# Altium schematic symbol library Oscillator - Crystal.SchLib: 422 symbols (part 4 of 7)
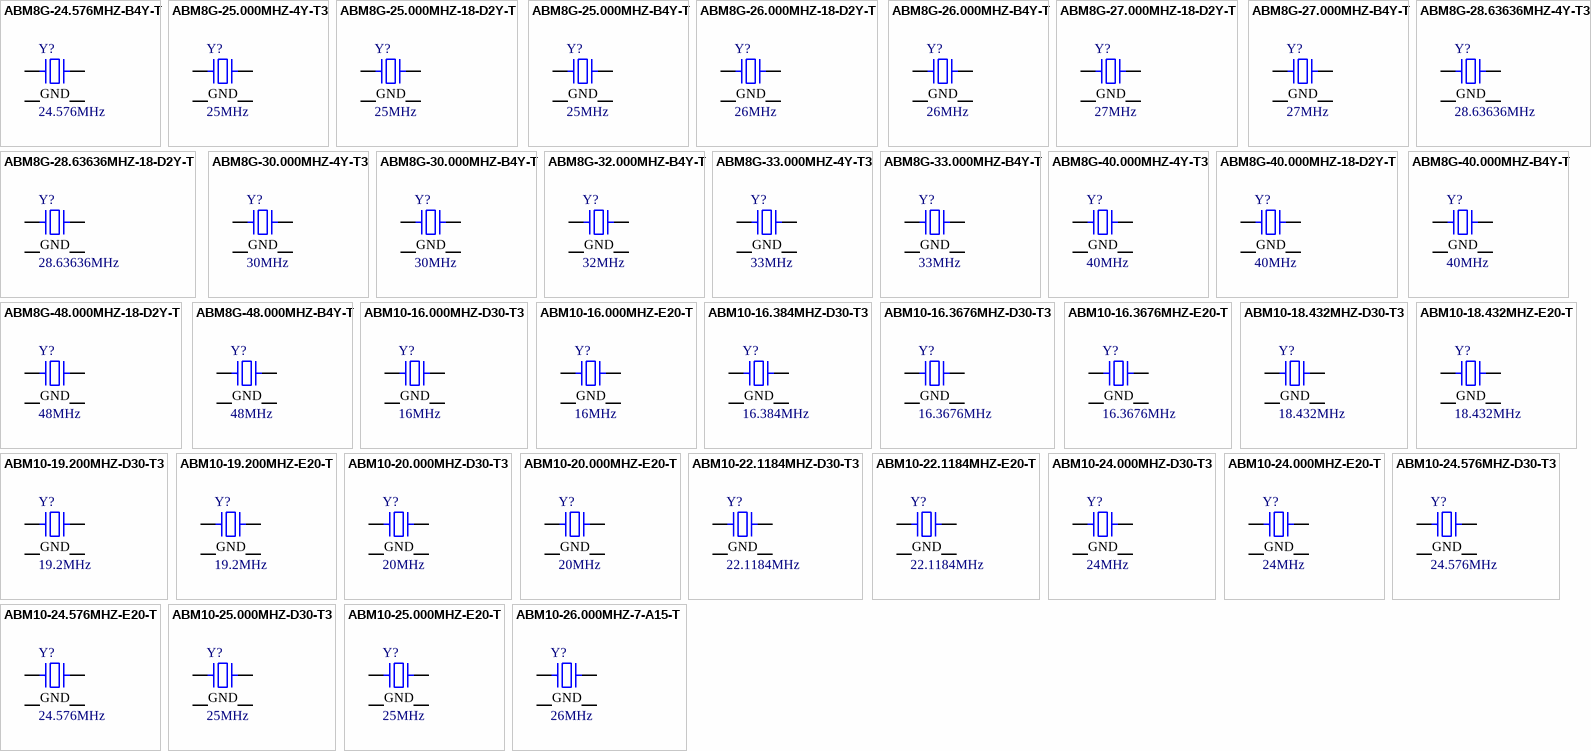
[diagram p13: symbols ABM8G-24.576MHZ-B4Y-T to ABM10-26.000MHZ-7-A15-T]

## ABM8G-26.000MHZ-B4Y-T
designator Y?, comment 26MHz
CRYSTAL 26.0000MHZ 10PF SMD; Part Number: ABM8G-26.000MHZ-B4Y-T; Manufacturer: Abracon LLC; Frequency Stability: 30ppm; ESR: 60 Ohm; Operating Mode: Fundamental; PartId: 8749; Supplier 1: Digi-Key; Supplier Part Number 1: 535-10298-2-ND; ComponentLink1Description: Datasheet; ComponentLink1URL: http://www.abracon.com/Resonators/ABM8G.pdf; ComponentLink2Description: Digi-Key Listing; ComponentLink2URL: https://www.digikey.com/product-detail/en/ABM8G-26.000MHZ-B4Y-T/535-10298-2-ND/2218044; Price: 0.495; Type: MHz Crystal; Device Package: 4-SMD, No Lead (DFN, LCC); Series: ABM8G; Frequency: 26MHz; Frequency Tolerance: 30ppm; Load Capacitance: 10pF
footprint ABRACON ABM8G
pins: 1, 2 GND, 3, 4 GND

## ABM8G-27.000MHZ-18-D2Y-T
designator Y?, comment 27MHz
CRYSTAL 27.0000MHZ 18PF SMD; Part Number: ABM8G-27.000MHZ-18-D2Y-T; Manufacturer: Abracon LLC; Frequency Stability: 30ppm; Frequency Tolerance: 20ppm; ESR: 60 Ohm; Operating Mode: Fundamental; PartId: 8742; Supplier 1: Digi-Key; Supplier Part Number 1: 535-10277-2-ND; ComponentLink1Description: Datasheet; ComponentLink1URL: http://www.abracon.com/Resonators/ABM8G.pdf; ComponentLink2Description: Digi-Key Listing; ComponentLink2URL: https://www.digikey.com/product-detail/en/ABM8G-27.000MHZ-18-D2Y-T/535-10277-2-ND/2218023; Price: 0.384; Type: MHz Crystal; Device Package: 4-SMD, No Lead (DFN, LCC); Series: ABM8G; Frequency: 27MHz; Load Capacitance: 18pF
footprint ABRACON ABM8G
pins: 1, 2 GND, 3, 4 GND

## ABM8G-27.000MHZ-B4Y-T
designator Y?, comment 27MHz
CRYSTAL 27.0000MHZ 10PF SMD; Part Number: ABM8G-27.000MHZ-B4Y-T; Manufacturer: Abracon LLC; Frequency Stability: 30ppm; ESR: 60 Ohm; Operating Mode: Fundamental; PartId: 8751; Supplier 1: Digi-Key; Supplier Part Number 1: 535-10299-2-ND; ComponentLink1Description: Datasheet; ComponentLink1URL: http://www.abracon.com/Resonators/ABM8G.pdf; ComponentLink2Description: Digi-Key Listing; ComponentLink2URL: https://www.digikey.com/product-detail/en/ABM8G-27.000MHZ-B4Y-T/535-10299-2-ND/2218045; Price: 0.495; Type: MHz Crystal; Device Package: 4-SMD, No Lead (DFN, LCC); Series: ABM8G; Frequency: 27MHz; Frequency Tolerance: 30ppm; Load Capacitance: 10pF
footprint ABRACON ABM8G
pins: 1, 2 GND, 3, 4 GND

## ABM8G-28.63636MHZ-4Y-T3
designator Y?, comment 28.63636MHz
CRYSTAL 28.63636MHZ 10PF SMD; Part Number: ABM8G-28.63636MHZ-4Y-T3; Manufacturer: Abracon LLC; Frequency Stability: 30ppm; ESR: 50 Ohm; Operating Mode: Fundamental; PartId: 8778; Supplier 1: Digi-Key; Supplier Part Number 1: 535-10918-2-ND; ComponentLink1Description: Datasheet; ComponentLink1URL: http://www.abracon.com/Resonators/ABM8G.pdf; ComponentLink2Description: Digi-Key Listing; ComponentLink2URL: https://www.digikey.com/product-detail/en/ABM8G-28.63636MHZ-4Y-T3/535-10918-2-ND/2623800; Price: 0.3915; Type: MHz Crystal; Device Package: 4-SMD, No Lead (DFN, LCC); Series: ABM8G; Frequency: 28.63636MHz; Frequency Tolerance: 30ppm; Load Capacitance: 10pF
footprint ABRACON ABM8G
pins: 1, 2 GND, 3, 4 GND

## ABM8G-28.63636MHZ-18-D2Y-T
designator Y?, comment 28.63636MHz
CRYSTAL 28.63636MHZ 18PF SMD; Part Number: ABM8G-28.63636MHZ-18-D2Y-T; Manufacturer: Abracon LLC; Frequency Stability: 30ppm; Frequency Tolerance: 20ppm; ESR: 50 Ohm; Operating Mode: Fundamental; PartId: 8746; Supplier 1: Digi-Key; Supplier Part Number 1: 535-10278-2-ND; ComponentLink1Description: Datasheet; ComponentLink1URL: http://www.abracon.com/Resonators/ABM8G.pdf; ComponentLink2Description: Digi-Key Listing; ComponentLink2URL: https://www.digikey.com/product-detail/en/ABM8G-28.63636MHZ-18-D2Y-T/535-10278-2-ND/2218024; Price: 0.585; Type: MHz Crystal; Device Package: 4-SMD, No Lead (DFN, LCC); Series: ABM8G; Frequency: 28.63636MHz; Load Capacitance: 18pF
footprint ABRACON ABM8G
pins: 1, 2 GND, 3, 4 GND

## ABM8G-30.000MHZ-4Y-T3
designator Y?, comment 30MHz
CRYSTAL 30.0000MHZ 10PF SMD; Part Number: ABM8G-30.000MHZ-4Y-T3; Manufacturer: Abracon LLC; Frequency Stability: 30ppm; ESR: 50 Ohm; Operating Mode: Fundamental; PartId: 8783; Supplier 1: Digi-Key; Supplier Part Number 1: 535-10919-2-ND; ComponentLink1Description: Datasheet; ComponentLink1URL: http://www.abracon.com/Resonators/ABM8G.pdf; ComponentLink2Description: Digi-Key Listing; ComponentLink2URL: https://www.digikey.com/product-detail/en/ABM8G-30.000MHZ-4Y-T3/535-10919-2-ND/2623801; Price: 0.3915; Type: MHz Crystal; Device Package: 4-SMD, No Lead (DFN, LCC); Series: ABM8G; Frequency: 30MHz; Frequency Tolerance: 30ppm; Load Capacitance: 10pF
footprint ABRACON ABM8G
pins: 1, 2 GND, 3, 4 GND

## ABM8G-30.000MHZ-B4Y-T
designator Y?, comment 30MHz
CRYSTAL 30.0000MHZ 10PF SMD; Part Number: ABM8G-30.000MHZ-B4Y-T; Manufacturer: Abracon LLC; Frequency Stability: 30ppm; ESR: 50 Ohm; Operating Mode: Fundamental; PartId: 8759; Supplier 1: Digi-Key; Supplier Part Number 1: 535-10301-2-ND; ComponentLink1Description: Datasheet; ComponentLink1URL: http://www.abracon.com/Resonators/ABM8G.pdf; ComponentLink2Description: Digi-Key Listing; ComponentLink2URL: https://www.digikey.com/product-detail/en/ABM8G-30.000MHZ-B4Y-T/535-10301-2-ND/2218047; Price: 0.495; Type: MHz Crystal; Device Package: 4-SMD, No Lead (DFN, LCC); Series: ABM8G; Frequency: 30MHz; Frequency Tolerance: 30ppm; Load Capacitance: 10pF
footprint ABRACON ABM8G
pins: 1, 2 GND, 3, 4 GND

## ABM8G-32.000MHZ-B4Y-T
designator Y?, comment 32MHz
CRYSTAL 32.0000MHZ 10PF SMD; Part Number: ABM8G-32.000MHZ-B4Y-T; Manufacturer: Abracon LLC; Frequency Stability: 30ppm; ESR: 50 Ohm; Operating Mode: Fundamental; PartId: 8745; Supplier 1: Digi-Key; Supplier Part Number 1: 535-10302-2-ND; ComponentLink1Description: Datasheet; ComponentLink1URL: http://www.abracon.com/Resonators/ABM8G.pdf; ComponentLink2Description: Digi-Key Listing; ComponentLink2URL: https://www.digikey.com/product-detail/en/ABM8G-32.000MHZ-B4Y-T/535-10302-2-ND/2218048; Price: 0.495; Type: MHz Crystal; Device Package: 4-SMD, No Lead (DFN, LCC); Series: ABM8G; Frequency: 32MHz; Frequency Tolerance: 30ppm; Load Capacitance: 10pF
footprint ABRACON ABM8G
pins: 1, 2 GND, 3, 4 GND

## ABM8G-33.000MHZ-4Y-T3
designator Y?, comment 33MHz
CRYSTAL 33.0000MHZ 10PF SMD; Part Number: ABM8G-33.000MHZ-4Y-T3; Manufacturer: Abracon LLC; Frequency Stability: 30ppm; ESR: 50 Ohm; Operating Mode: Fundamental; PartId: 8779; Supplier 1: Digi-Key; Supplier Part Number 1: 535-10920-2-ND; ComponentLink1Description: Datasheet; ComponentLink1URL: http://www.abracon.com/Resonators/ABM8G.pdf; ComponentLink2Description: Digi-Key Listing; ComponentLink2URL: https://www.digikey.com/product-detail/en/ABM8G-33.000MHZ-4Y-T3/535-10920-2-ND/2623802; Price: 0.3915; Type: MHz Crystal; Device Package: 4-SMD, No Lead (DFN, LCC); Series: ABM8G; Frequency: 33MHz; Frequency Tolerance: 30ppm; Load Capacitance: 10pF
footprint ABRACON ABM8G
pins: 1, 2 GND, 3, 4 GND

## ABM8G-33.000MHZ-B4Y-T
designator Y?, comment 33MHz
CRYSTAL 33.0000MHZ 10PF SMD; Part Number: ABM8G-33.000MHZ-B4Y-T; Manufacturer: Abracon LLC; Frequency Stability: 30ppm; ESR: 50 Ohm; Operating Mode: Fundamental; PartId: 8764; Supplier 1: Digi-Key; Supplier Part Number 1: 535-10303-2-ND; ComponentLink1Description: Datasheet; ComponentLink1URL: http://www.abracon.com/Resonators/ABM8G.pdf; ComponentLink2Description: Digi-Key Listing; ComponentLink2URL: https://www.digikey.com/product-detail/en/ABM8G-33.000MHZ-B4Y-T/535-10303-2-ND/2218049; Price: 0.495; Type: MHz Crystal; Device Package: 4-SMD, No Lead (DFN, LCC); Series: ABM8G; Frequency: 33MHz; Frequency Tolerance: 30ppm; Load Capacitance: 10pF
footprint ABRACON ABM8G
pins: 1, 2 GND, 3, 4 GND

## ABM8G-40.000MHZ-4Y-T3
designator Y?, comment 40MHz
CRYSTAL 40.0000MHZ 10PF SMD; Part Number: ABM8G-40.000MHZ-4Y-T3; Manufacturer: Abracon LLC; Frequency Stability: 30ppm; ESR: 50 Ohm; Operating Mode: Fundamental; PartId: 8784; Supplier 1: Digi-Key; Supplier Part Number 1: 535-10921-2-ND; ComponentLink1Description: Datasheet; ComponentLink1URL: http://www.abracon.com/Resonators/ABM8G.pdf; ComponentLink2Description: Digi-Key Listing; ComponentLink2URL: https://www.digikey.com/product-detail/en/ABM8G-40.000MHZ-4Y-T3/535-10921-2-ND/2623803; Price: 0.3915; Type: MHz Crystal; Device Package: 4-SMD, No Lead (DFN, LCC); Series: ABM8G; Frequency: 40MHz; Frequency Tolerance: 30ppm; Load Capacitance: 10pF
footprint ABRACON ABM8G
pins: 1, 2 GND, 3, 4 GND

## ABM8G-40.000MHZ-18-D2Y-T
designator Y?, comment 40MHz
CRYSTAL 40.0000MHZ 18PF SMD; Part Number: ABM8G-40.000MHZ-18-D2Y-T; Manufacturer: Abracon LLC; Frequency Stability: 30ppm; Frequency Tolerance: 20ppm; ESR: 50 Ohm; Operating Mode: Fundamental; PartId: 8770; Supplier 1: Digi-Key; Supplier Part Number 1: 535-10281-2-ND; ComponentLink1Description: Datasheet; ComponentLink1URL: http://www.abracon.com/Resonators/ABM8G.pdf; ComponentLink2Description: Digi-Key Listing; ComponentLink2URL: https://www.digikey.com/product-detail/en/ABM8G-40.000MHZ-18-D2Y-T/535-10281-2-ND/2218027; Price: 0.585; Type: MHz Crystal; Device Package: 4-SMD, No Lead (DFN, LCC); Series: ABM8G; Frequency: 40MHz; Load Capacitance: 18pF
footprint ABRACON ABM8G
pins: 1, 2 GND, 3, 4 GND

## ABM8G-40.000MHZ-B4Y-T
designator Y?, comment 40MHz
CRYSTAL 40.0000MHZ 10PF SMD; Part Number: ABM8G-40.000MHZ-B4Y-T; Manufacturer: Abracon LLC; Frequency Stability: 30ppm; ESR: 50 Ohm; Operating Mode: Fundamental; PartId: 8763; Supplier 1: Digi-Key; Supplier Part Number 1: 535-10304-2-ND; ComponentLink1Description: Datasheet; ComponentLink1URL: http://www.abracon.com/Resonators/ABM8G.pdf; ComponentLink2Description: Digi-Key Listing; ComponentLink2URL: https://www.digikey.com/product-detail/en/ABM8G-40.000MHZ-B4Y-T/535-10304-2-ND/2218050; Price: 0.495; Type: MHz Crystal; Device Package: 4-SMD, No Lead (DFN, LCC); Series: ABM8G; Frequency: 40MHz; Frequency Tolerance: 30ppm; Load Capacitance: 10pF
footprint ABRACON ABM8G
pins: 1, 2 GND, 3, 4 GND

## ABM8G-48.000MHZ-18-D2Y-T
designator Y?, comment 48MHz
CRYSTAL 48.0000MHZ 18PF SMD; Part Number: ABM8G-48.000MHZ-18-D2Y-T; Manufacturer: Abracon LLC; Frequency Stability: 30ppm; Frequency Tolerance: 20ppm; ESR: 50 Ohm; Operating Mode: Fundamental; PartId: 8752; Supplier 1: Digi-Key; Supplier Part Number 1: 535-10282-2-ND; ComponentLink1Description: Datasheet; ComponentLink1URL: http://www.abracon.com/Resonators/ABM8G.pdf; ComponentLink2Description: Digi-Key Listing; ComponentLink2URL: https://www.digikey.com/product-detail/en/ABM8G-48.000MHZ-18-D2Y-T/535-10282-2-ND/2218028; Price: 0.585; Type: MHz Crystal; Device Package: 4-SMD, No Lead (DFN, LCC); Series: ABM8G; Frequency: 48MHz; Load Capacitance: 18pF
footprint ABRACON ABM8G
pins: 1, 2 GND, 3, 4 GND

## ABM8G-48.000MHZ-B4Y-T
designator Y?, comment 48MHz
CRYSTAL 48.0000MHZ 10PF SMD; Part Number: ABM8G-48.000MHZ-B4Y-T; Manufacturer: Abracon LLC; Frequency Stability: 30ppm; ESR: 50 Ohm; Operating Mode: Fundamental; PartId: 8760; Supplier 1: Digi-Key; Supplier Part Number 1: 535-10305-2-ND; ComponentLink1Description: Datasheet; ComponentLink1URL: http://www.abracon.com/Resonators/ABM8G.pdf; ComponentLink2Description: Digi-Key Listing; ComponentLink2URL: https://www.digikey.com/product-detail/en/ABM8G-48.000MHZ-B4Y-T/535-10305-2-ND/2218051; Price: 0.495; Type: MHz Crystal; Device Package: 4-SMD, No Lead (DFN, LCC); Series: ABM8G; Frequency: 48MHz; Frequency Tolerance: 30ppm; Load Capacitance: 10pF
footprint ABRACON ABM8G
pins: 1, 2 GND, 3, 4 GND

## ABM10-16.000MHZ-D30-T3
designator Y?, comment 16MHz
CRYSTAL 16.0000MHZ 10PF SMD; Part Number: ABM10-16.000MHZ-D30-T3; Manufacturer: Abracon LLC; Frequency Stability: 30ppm; Frequency Tolerance: 20ppm; ESR: 150 Ohm; Operating Mode: Fundamental; PartId: 8880; Supplier 1: Digi-Key; Supplier Part Number 1: 535-10923-2-ND; ComponentLink1Description: Datasheet; ComponentLink1URL: http://www.abracon.com/Resonators/ABM10.pdf; ComponentLink2Description: Digi-Key Listing; ComponentLink2URL: https://www.digikey.com/product-detail/en/ABM10-16.000MHZ-D30-T3/535-10923-2-ND/2623723; Price: 0.667; Type: MHz Crystal; Device Package: 4-SMD, No Lead (DFN, LCC); Series: ABM10; Frequency: 16MHz; Load Capacitance: 10pF
footprint ABRACON ABM10
pins: 1, 2 GND, 3, 4 GND

## ABM10-16.000MHZ-E20-T
designator Y?, comment 16MHz
CRYSTAL 16.0000MHZ 10PF SMD; Part Number: ABM10-16.000MHZ-E20-T; Manufacturer: Abracon LLC; Frequency Stability: 20ppm; ESR: 150 Ohm; Operating Mode: Fundamental; PartId: 8878; Supplier 1: Digi-Key; Supplier Part Number 1: 535-9810-2-ND; ComponentLink1Description: Datasheet; ComponentLink1URL: http://www.abracon.com/Resonators/ABM10.pdf; ComponentLink2Description: Digi-Key Listing; ComponentLink2URL: https://www.digikey.com/product-detail/en/ABM10-16.000MHZ-E20-T/535-9810-2-ND/2001177; Price: 0.39; Type: MHz Crystal; Device Package: 4-SMD, No Lead (DFN, LCC); Series: ABM10; Frequency: 16MHz; Frequency Tolerance: 20ppm; Load Capacitance: 10pF
footprint ABRACON ABM10
pins: 1, 2 GND, 3, 4 GND

## ABM10-16.384MHZ-D30-T3
designator Y?, comment 16.384MHz
CRYSTAL 16.3840MHZ 10PF SMD; Part Number: ABM10-16.384MHZ-D30-T3; Manufacturer: Abracon LLC; Frequency Stability: 30ppm; Frequency Tolerance: 20ppm; ESR: 150 Ohm; Operating Mode: Fundamental; PartId: 8898; Supplier 1: Digi-Key; Supplier Part Number 1: 535-10925-2-ND; ComponentLink1Description: Datasheet; ComponentLink1URL: http://www.abracon.com/Resonators/ABM10.pdf; ComponentLink2Description: Digi-Key Listing; ComponentLink2URL: https://www.digikey.com/product-detail/en/ABM10-16.384MHZ-D30-T3/535-10925-2-ND/2623725; Price: 0.667; Type: MHz Crystal; Device Package: 4-SMD, No Lead (DFN, LCC); Series: ABM10; Frequency: 16.384MHz; Load Capacitance: 10pF
footprint ABRACON ABM10
pins: 1, 2 GND, 3, 4 GND

## ABM10-16.3676MHZ-D30-T3
designator Y?, comment 16.3676MHz
CRYSTAL 16.3676MHZ 10PF SMD; Part Number: ABM10-16.3676MHZ-D30-T3; Manufacturer: Abracon LLC; Frequency Stability: 30ppm; Frequency Tolerance: 20ppm; ESR: 150 Ohm; Operating Mode: Fundamental; PartId: 8903; Supplier 1: Digi-Key; Supplier Part Number 1: 535-10924-2-ND; ComponentLink1Description: Datasheet; ComponentLink1URL: http://www.abracon.com/Resonators/ABM10.pdf; ComponentLink2Description: Digi-Key Listing; ComponentLink2URL: https://www.digikey.com/product-detail/en/ABM10-16.3676MHZ-D30-T3/535-10924-2-ND/2623724; Price: 0.667; Type: MHz Crystal; Device Package: 4-SMD, No Lead (DFN, LCC); Series: ABM10; Frequency: 16.3676MHz; Load Capacitance: 10pF
footprint ABRACON ABM10
pins: 1, 2 GND, 3, 4 GND

## ABM10-16.3676MHZ-E20-T
designator Y?, comment 16.3676MHz
CRYSTAL 16.3676MHZ 10PF SMD; Part Number: ABM10-16.3676MHZ-E20-T; Manufacturer: Abracon LLC; Frequency Stability: 20ppm; ESR: 150 Ohm; Operating Mode: Fundamental; PartId: 8905; Supplier 1: Digi-Key; Supplier Part Number 1: 535-9811-2-ND; ComponentLink1Description: Datasheet; ComponentLink1URL: http://www.abracon.com/Resonators/ABM10.pdf; ComponentLink2Description: Digi-Key Listing; ComponentLink2URL: https://www.digikey.com/product-detail/en/ABM10-16.3676MHZ-E20-T/535-9811-2-ND/2001178; Price: 0.9587; Type: MHz Crystal; Device Package: 4-SMD, No Lead (DFN, LCC); Series: ABM10; Frequency: 16.3676MHz; Frequency Tolerance: 20ppm; Load Capacitance: 10pF
footprint ABRACON ABM10
pins: 1, 2 GND, 3, 4 GND

## ABM10-18.432MHZ-D30-T3
designator Y?, comment 18.432MHz
CRYSTAL 18.4320MHZ 10PF SMD; Part Number: ABM10-18.432MHZ-D30-T3; Manufacturer: Abracon LLC; Frequency Stability: 30ppm; Frequency Tolerance: 20ppm; ESR: 150 Ohm; Operating Mode: Fundamental; PartId: 8890; Supplier 1: Digi-Key; Supplier Part Number 1: 535-10926-2-ND; ComponentLink1Description: Datasheet; ComponentLink1URL: http://www.abracon.com/Resonators/ABM10.pdf; ComponentLink2Description: Digi-Key Listing; ComponentLink2URL: https://www.digikey.com/product-detail/en/ABM10-18.432MHZ-D30-T3/535-10926-2-ND/2623726; Price: 0.667; Type: MHz Crystal; Device Package: 4-SMD, No Lead (DFN, LCC); Series: ABM10; Frequency: 18.432MHz; Load Capacitance: 10pF
footprint ABRACON ABM10
pins: 1, 2 GND, 3, 4 GND

## ABM10-18.432MHZ-E20-T
designator Y?, comment 18.432MHz
CRYSTAL 18.4320MHZ 10PF SMD; Part Number: ABM10-18.432MHZ-E20-T; Manufacturer: Abracon LLC; Frequency Stability: 20ppm; ESR: 150 Ohm; Operating Mode: Fundamental; PartId: 8897; Supplier 1: Digi-Key; Supplier Part Number 1: 535-9813-2-ND; ComponentLink1Description: Datasheet; ComponentLink1URL: http://www.abracon.com/Resonators/ABM10.pdf; ComponentLink2Description: Digi-Key Listing; ComponentLink2URL: https://www.digikey.com/product-detail/en/ABM10-18.432MHZ-E20-T/535-9813-2-ND/2001180; Price: 0.9587; Type: MHz Crystal; Device Package: 4-SMD, No Lead (DFN, LCC); Series: ABM10; Frequency: 18.432MHz; Frequency Tolerance: 20ppm; Load Capacitance: 10pF
footprint ABRACON ABM10
pins: 1, 2 GND, 3, 4 GND

## ABM10-19.200MHZ-D30-T3
designator Y?, comment 19.2MHz
CRYSTAL 19.2000MHZ 10PF SMD; Part Number: ABM10-19.200MHZ-D30-T3; Manufacturer: Abracon LLC; Frequency Stability: 30ppm; Frequency Tolerance: 20ppm; ESR: 150 Ohm; Operating Mode: Fundamental; PartId: 8883; Supplier 1: Digi-Key; Supplier Part Number 1: 535-10927-2-ND; ComponentLink1Description: Datasheet; ComponentLink1URL: http://www.abracon.com/Resonators/ABM10.pdf; ComponentLink2Description: Digi-Key Listing; ComponentLink2URL: https://www.digikey.com/product-detail/en/ABM10-19.200MHZ-D30-T3/535-10927-2-ND/2623727; Price: 0.667; Type: MHz Crystal; Device Package: 4-SMD, No Lead (DFN, LCC); Series: ABM10; Frequency: 19.2MHz; Load Capacitance: 10pF
footprint ABRACON ABM10
pins: 1, 2 GND, 3, 4 GND

## ABM10-19.200MHZ-E20-T
designator Y?, comment 19.2MHz
CRYSTAL 19.2000MHZ 10PF SMD; Part Number: ABM10-19.200MHZ-E20-T; Manufacturer: Abracon LLC; Frequency Stability: 20ppm; ESR: 150 Ohm; Operating Mode: Fundamental; PartId: 8908; Supplier 1: Digi-Key; Supplier Part Number 1: 535-9814-2-ND; ComponentLink1Description: Datasheet; ComponentLink1URL: http://www.abracon.com/Resonators/ABM10.pdf; ComponentLink2Description: Digi-Key Listing; ComponentLink2URL: https://www.digikey.com/product-detail/en/ABM10-19.200MHZ-E20-T/535-9814-2-ND/2001181; Price: 0.9587; Type: MHz Crystal; Device Package: 4-SMD, No Lead (DFN, LCC); Series: ABM10; Frequency: 19.2MHz; Frequency Tolerance: 20ppm; Load Capacitance: 10pF
footprint ABRACON ABM10
pins: 1, 2 GND, 3, 4 GND

## ABM10-20.000MHZ-D30-T3
designator Y?, comment 20MHz
CRYSTAL 20.0000MHZ 10PF SMD; Part Number: ABM10-20.000MHZ-D30-T3; Manufacturer: Abracon LLC; Frequency Stability: 30ppm; Frequency Tolerance: 20ppm; ESR: 100 Ohm; Operating Mode: Fundamental; PartId: 8899; Supplier 1: Digi-Key; Supplier Part Number 1: 535-10928-2-ND; ComponentLink1Description: Datasheet; ComponentLink1URL: http://www.abracon.com/Resonators/ABM10.pdf; ComponentLink2Description: Digi-Key Listing; ComponentLink2URL: https://www.digikey.com/product-detail/en/ABM10-20.000MHZ-D30-T3/535-10928-2-ND/2623728; Price: 0.667; Type: MHz Crystal; Device Package: 4-SMD, No Lead (DFN, LCC); Series: ABM10; Frequency: 20MHz; Load Capacitance: 10pF
footprint ABRACON ABM10
pins: 1, 2 GND, 3, 4 GND

## ABM10-20.000MHZ-E20-T
designator Y?, comment 20MHz
CRYSTAL 20.0000MHZ 10PF SMD; Part Number: ABM10-20.000MHZ-E20-T; Manufacturer: Abracon LLC; Frequency Stability: 20ppm; ESR: 100 Ohm; Operating Mode: Fundamental; PartId: 8894; Supplier 1: Digi-Key; Supplier Part Number 1: 535-9091-2-ND; ComponentLink1Description: Datasheet; ComponentLink1URL: http://www.abracon.com/Resonators/ABM10.pdf; ComponentLink2Description: Digi-Key Listing; ComponentLink2URL: https://www.digikey.com/product-detail/en/ABM10-20.000MHZ-E20-T/535-9091-2-ND/675286; Price: 0.9587; Type: MHz Crystal; Device Package: 4-SMD, No Lead (DFN, LCC); Series: ABM10; Frequency: 20MHz; Frequency Tolerance: 20ppm; Load Capacitance: 10pF
footprint ABRACON ABM10
pins: 1, 2 GND, 3, 4 GND

## ABM10-22.1184MHZ-D30-T3
designator Y?, comment 22.1184MHz
CRYSTAL 22.1184MHZ 10PF SMD; Part Number: ABM10-22.1184MHZ-D30-T3; Manufacturer: Abracon LLC; Frequency Stability: 30ppm; Frequency Tolerance: 20ppm; ESR: 100 Ohm; Operating Mode: Fundamental; PartId: 8904; Supplier 1: Digi-Key; Supplier Part Number 1: 535-10929-2-ND; ComponentLink1Description: Datasheet; ComponentLink1URL: http://www.abracon.com/Resonators/ABM10.pdf; ComponentLink2Description: Digi-Key Listing; ComponentLink2URL: https://www.digikey.com/product-detail/en/ABM10-22.1184MHZ-D30-T3/535-10929-2-ND/2623729; Price: 0.667; Type: MHz Crystal; Device Package: 4-SMD, No Lead (DFN, LCC); Series: ABM10; Frequency: 22.1184MHz; Load Capacitance: 10pF
footprint ABRACON ABM10
pins: 1, 2 GND, 3, 4 GND

## ABM10-22.1184MHZ-E20-T
designator Y?, comment 22.1184MHz
CRYSTAL 22.1184MHZ 10PF SMD; Part Number: ABM10-22.1184MHZ-E20-T; Manufacturer: Abracon LLC; Frequency Stability: 20ppm; ESR: 100 Ohm; Operating Mode: Fundamental; PartId: 8909; Supplier 1: Digi-Key; Supplier Part Number 1: 535-9092-2-ND; ComponentLink1Description: Datasheet; ComponentLink1URL: http://www.abracon.com/Resonators/ABM10.pdf; ComponentLink2Description: Digi-Key Listing; ComponentLink2URL: https://www.digikey.com/product-detail/en/ABM10-22.1184MHZ-E20-T/535-9092-2-ND/675287; Price: 0.9587; Type: MHz Crystal; Device Package: 4-SMD, No Lead (DFN, LCC); Series: ABM10; Frequency: 22.1184MHz; Frequency Tolerance: 20ppm; Load Capacitance: 10pF
footprint ABRACON ABM10
pins: 1, 2 GND, 3, 4 GND

## ABM10-24.000MHZ-D30-T3
designator Y?, comment 24MHz
CRYSTAL 24.0000MHZ 10PF SMD; Part Number: ABM10-24.000MHZ-D30-T3; Manufacturer: Abracon LLC; Frequency Stability: 30ppm; Frequency Tolerance: 20ppm; ESR: 100 Ohm; Operating Mode: Fundamental; PartId: 8881; Supplier 1: Digi-Key; Supplier Part Number 1: 535-10930-2-ND; ComponentLink1Description: Datasheet; ComponentLink1URL: http://www.abracon.com/Resonators/ABM10.pdf; ComponentLink2Description: Digi-Key Listing; ComponentLink2URL: https://www.digikey.com/product-detail/en/ABM10-24.000MHZ-D30-T3/535-10930-2-ND/2623730; Price: 0.667; Type: MHz Crystal; Device Package: 4-SMD, No Lead (DFN, LCC); Series: ABM10; Frequency: 24MHz; Load Capacitance: 10pF
footprint ABRACON ABM10
pins: 1, 2 GND, 3, 4 GND

## ABM10-24.000MHZ-E20-T
designator Y?, comment 24MHz
CRYSTAL 24.0000MHZ 10PF SMD; Part Number: ABM10-24.000MHZ-E20-T; Manufacturer: Abracon LLC; Frequency Stability: 20ppm; ESR: 100 Ohm; Operating Mode: Fundamental; PartId: 8886; Supplier 1: Digi-Key; Supplier Part Number 1: 535-9093-2-ND; ComponentLink1Description: Datasheet; ComponentLink1URL: http://www.abracon.com/Resonators/ABM10.pdf; ComponentLink2Description: Digi-Key Listing; ComponentLink2URL: https://www.digikey.com/product-detail/en/ABM10-24.000MHZ-E20-T/535-9093-2-ND/675288; Price: 0.384; Type: MHz Crystal; Device Package: 4-SMD, No Lead (DFN, LCC); Series: ABM10; Frequency: 24MHz; Frequency Tolerance: 20ppm; Load Capacitance: 10pF
footprint ABRACON ABM10
pins: 1, 2 GND, 3, 4 GND

## ABM10-24.576MHZ-D30-T3
designator Y?, comment 24.576MHz
CRYSTAL 24.5760MHZ 10PF SMD; Part Number: ABM10-24.576MHZ-D30-T3; Manufacturer: Abracon LLC; Frequency Stability: 30ppm; Frequency Tolerance: 20ppm; ESR: 100 Ohm; Operating Mode: Fundamental; PartId: 8900; Supplier 1: Digi-Key; Supplier Part Number 1: 535-10931-2-ND; ComponentLink1Description: Datasheet; ComponentLink1URL: http://www.abracon.com/Resonators/ABM10.pdf; ComponentLink2Description: Digi-Key Listing; ComponentLink2URL: https://www.digikey.com/product-detail/en/ABM10-24.576MHZ-D30-T3/535-10931-2-ND/2623731; Price: 0.667; Type: MHz Crystal; Device Package: 4-SMD, No Lead (DFN, LCC); Series: ABM10; Frequency: 24.576MHz; Load Capacitance: 10pF
footprint ABRACON ABM10
pins: 1, 2 GND, 3, 4 GND

## ABM10-24.576MHZ-E20-T
designator Y?, comment 24.576MHz
CRYSTAL 24.5760MHZ 10PF SMD; Part Number: ABM10-24.576MHZ-E20-T; Manufacturer: Abracon LLC; Frequency Stability: 20ppm; ESR: 100 Ohm; Operating Mode: Fundamental; PartId: 8896; Supplier 1: Digi-Key; Supplier Part Number 1: 535-9094-2-ND; ComponentLink1Description: Datasheet; ComponentLink1URL: http://www.abracon.com/Resonators/ABM10.pdf; ComponentLink2Description: Digi-Key Listing; ComponentLink2URL: https://www.digikey.com/product-detail/en/ABM10-24.576MHZ-E20-T/535-9094-2-ND/675289; Price: 0.9587; Type: MHz Crystal; Device Package: 4-SMD, No Lead (DFN, LCC); Series: ABM10; Frequency: 24.576MHz; Frequency Tolerance: 20ppm; Load Capacitance: 10pF
footprint ABRACON ABM10
pins: 1, 2 GND, 3, 4 GND

## ABM10-25.000MHZ-D30-T3
designator Y?, comment 25MHz
CRYSTAL 25.0000MHZ 10PF SMD; Part Number: ABM10-25.000MHZ-D30-T3; Manufacturer: Abracon LLC; Frequency Stability: 30ppm; Frequency Tolerance: 20ppm; ESR: 100 Ohm; Operating Mode: Fundamental; PartId: 8882; Supplier 1: Digi-Key; Supplier Part Number 1: 535-10932-2-ND; ComponentLink1Description: Datasheet; ComponentLink1URL: http://www.abracon.com/Resonators/ABM10.pdf; ComponentLink2Description: Digi-Key Listing; ComponentLink2URL: https://www.digikey.com/product-detail/en/ABM10-25.000MHZ-D30-T3/535-10932-2-ND/2623732; Price: 0.667; Type: MHz Crystal; Device Package: 4-SMD, No Lead (DFN, LCC); Series: ABM10; Frequency: 25MHz; Load Capacitance: 10pF
footprint ABRACON ABM10
pins: 1, 2 GND, 3, 4 GND

## ABM10-25.000MHZ-E20-T
designator Y?, comment 25MHz
CRYSTAL 25.0000MHZ 10PF SMD; Part Number: ABM10-25.000MHZ-E20-T; Manufacturer: Abracon LLC; Frequency Stability: 20ppm; ESR: 100 Ohm; Operating Mode: Fundamental; PartId: 8884; Supplier 1: Digi-Key; Supplier Part Number 1: 535-9095-2-ND; ComponentLink1Description: Datasheet; ComponentLink1URL: http://www.abracon.com/Resonators/ABM10.pdf; ComponentLink2Description: Digi-Key Listing; ComponentLink2URL: https://www.digikey.com/product-detail/en/ABM10-25.000MHZ-E20-T/535-9095-2-ND/675290; Price: 0.9587; Type: MHz Crystal; Device Package: 4-SMD, No Lead (DFN, LCC); Series: ABM10; Frequency: 25MHz; Frequency Tolerance: 20ppm; Load Capacitance: 10pF
footprint ABRACON ABM10
pins: 1, 2 GND, 3, 4 GND

## ABM10-26.000MHZ-7-A15-T
designator Y?, comment 26MHz
CRYSTAL 26.0000MHZ 10PF SMD; Part Number: ABM10-26.000MHZ-7-A15-T; Manufacturer: Abracon LLC; Frequency Stability: 15ppm; ESR: 100 Ohm; Operating Mode: Fundamental; PartId: 8907; Supplier 1: Digi-Key; Supplier Part Number 1: 535-9624-2-ND; ComponentLink1Description: Datasheet; ComponentLink1URL: http://www.abracon.com/Resonators/ABM10.pdf; ComponentLink2Description: Digi-Key Listing; ComponentLink2URL: https://www.digikey.com/product-detail/en/ABM10-26.000MHZ-7-A15-T/535-9624-2-ND/1236941; Price: 0.6; Type: MHz Crystal; Device Package: 4-SMD, No Lead (DFN, LCC); Series: ABM10; Frequency: 26MHz; Frequency Tolerance: 15ppm; Load Capacitance: 10pF
footprint ABRACON ABM10
pins: 1, 2 GND, 3, 4 GND

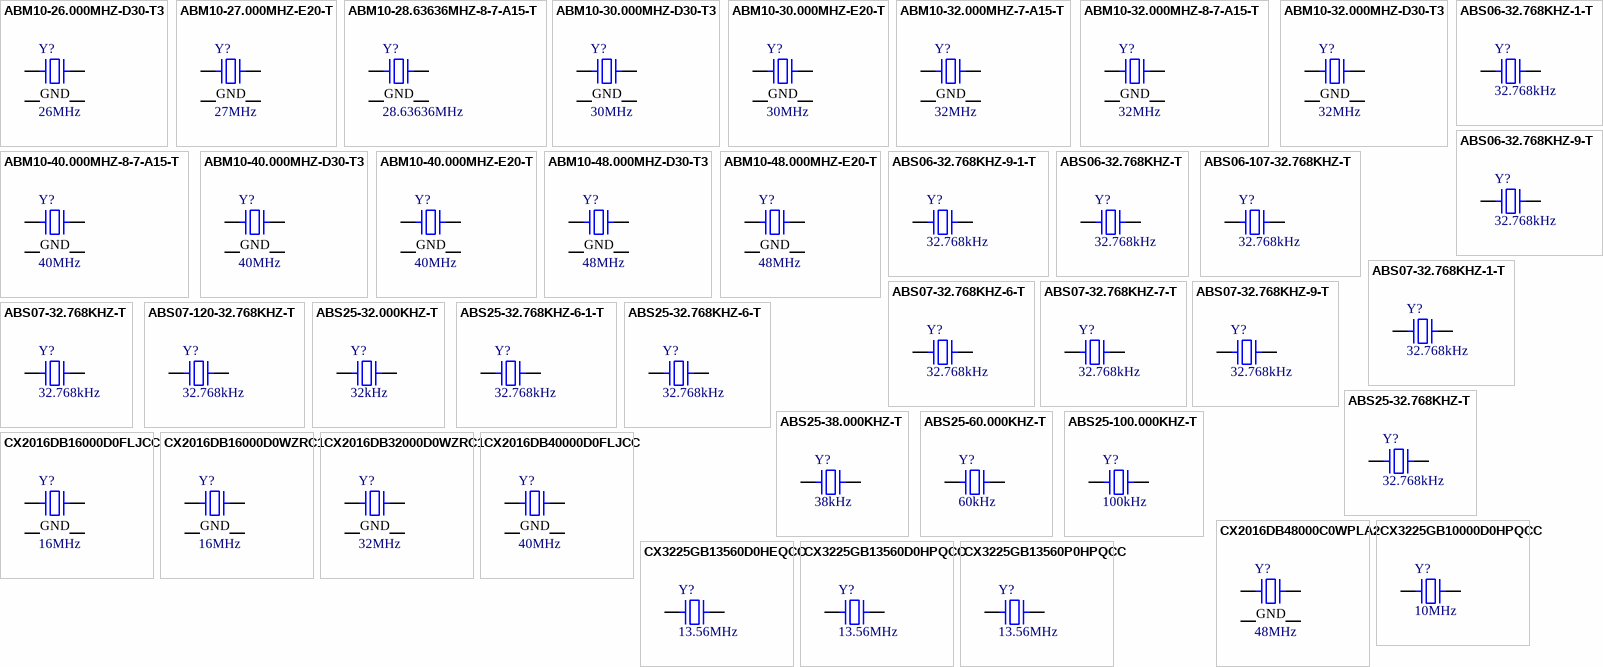
[diagram p6: symbols ABM10-26.000MHZ-D30-T3 to CX3225GB13560P0HPQCC]

## ABM10-26.000MHZ-D30-T3
designator Y?, comment 26MHz
CRYSTAL 26.0000MHZ 10PF SMD; Part Number: ABM10-26.000MHZ-D30-T3; Manufacturer: Abracon LLC; Frequency Stability: 30ppm; Frequency Tolerance: 20ppm; ESR: 100 Ohm; Operating Mode: Fundamental; PartId: 8891; Supplier 1: Digi-Key; Supplier Part Number 1: 535-10933-2-ND; ComponentLink1Description: Datasheet; ComponentLink1URL: http://www.abracon.com/Resonators/ABM10.pdf; ComponentLink2Description: Digi-Key Listing; ComponentLink2URL: https://www.digikey.com/product-detail/en/ABM10-26.000MHZ-D30-T3/535-10933-2-ND/2623733; Price: 0.667; Type: MHz Crystal; Device Package: 4-SMD, No Lead (DFN, LCC); Series: ABM10; Frequency: 26MHz; Load Capacitance: 10pF
footprint ABRACON ABM10
pins: 1, 2 GND, 3, 4 GND

## ABM10-27.000MHZ-E20-T
designator Y?, comment 27MHz
CRYSTAL 27.0000MHZ 10PF SMD; Part Number: ABM10-27.000MHZ-E20-T; Manufacturer: Abracon LLC; Frequency Stability: 20ppm; ESR: 100 Ohm; Operating Mode: Fundamental; PartId: 8885; Supplier 1: Digi-Key; Supplier Part Number 1: 535-9096-2-ND; ComponentLink1Description: Datasheet; ComponentLink1URL: http://www.abracon.com/Resonators/ABM10.pdf; ComponentLink2Description: Digi-Key Listing; ComponentLink2URL: https://www.digikey.com/product-detail/en/ABM10-27.000MHZ-E20-T/535-9096-2-ND/675291; Price: 0.9587; Type: MHz Crystal; Device Package: 4-SMD, No Lead (DFN, LCC); Series: ABM10; Frequency: 27MHz; Frequency Tolerance: 20ppm; Load Capacitance: 10pF
footprint ABRACON ABM10
pins: 1, 2 GND, 3, 4 GND

## ABM10-28.63636MHZ-8-7-A15-T
designator Y?, comment 28.63636MHz
CRYSTAL 28.63636MHZ 8PF SMD; Part Number: ABM10-28.63636MHZ-8-7-A15-T; Manufacturer: Abracon LLC; Frequency Stability: 15ppm; ESR: 100 Ohm; Operating Mode: Fundamental; PartId: 8879; Supplier 1: Digi-Key; Supplier Part Number 1: 535-9623-2-ND; ComponentLink1Description: Datasheet; ComponentLink1URL: http://www.abracon.com/Resonators/ABM10.pdf; ComponentLink2Description: Digi-Key Listing; ComponentLink2URL: https://www.digikey.com/product-detail/en/ABM10-28.63636MHZ-8-7-A15-T/535-9623-2-ND/1236940; Price: 0.6; Type: MHz Crystal; Device Package: 4-SMD, No Lead (DFN, LCC); Series: ABM10; Frequency: 28.63636MHz; Frequency Tolerance: 15ppm; Load Capacitance: 8pF
footprint ABRACON ABM10
pins: 1, 2 GND, 3, 4 GND

## ABM10-30.000MHZ-D30-T3
designator Y?, comment 30MHz
CRYSTAL 30.0000MHZ 10PF SMD; Part Number: ABM10-30.000MHZ-D30-T3; Manufacturer: Abracon LLC; Frequency Stability: 30ppm; Frequency Tolerance: 20ppm; ESR: 70 Ohm; Operating Mode: Fundamental; PartId: 8888; Supplier 1: Digi-Key; Supplier Part Number 1: 535-10935-2-ND; ComponentLink1Description: Datasheet; ComponentLink1URL: http://www.abracon.com/Resonators/ABM10.pdf; ComponentLink2Description: Digi-Key Listing; ComponentLink2URL: https://www.digikey.com/product-detail/en/ABM10-30.000MHZ-D30-T3/535-10935-2-ND/2623735; Price: 0.667; Type: MHz Crystal; Device Package: 4-SMD, No Lead (DFN, LCC); Series: ABM10; Frequency: 30MHz; Load Capacitance: 10pF
footprint ABRACON ABM10
pins: 1, 2 GND, 3, 4 GND

## ABM10-30.000MHZ-E20-T
designator Y?, comment 30MHz
CRYSTAL 30.0000MHZ 10PF SMD; Part Number: ABM10-30.000MHZ-E20-T; Manufacturer: Abracon LLC; Frequency Stability: 20ppm; ESR: 70 Ohm; Operating Mode: Fundamental; PartId: 8895; Supplier 1: Digi-Key; Supplier Part Number 1: 535-9097-2-ND; ComponentLink1Description: Datasheet; ComponentLink1URL: http://www.abracon.com/Resonators/ABM10.pdf; ComponentLink2Description: Digi-Key Listing; ComponentLink2URL: https://www.digikey.com/product-detail/en/ABM10-30.000MHZ-E20-T/535-9097-2-ND/675292; Price: 0.9587; Type: MHz Crystal; Device Package: 4-SMD, No Lead (DFN, LCC); Series: ABM10; Frequency: 30MHz; Frequency Tolerance: 20ppm; Load Capacitance: 10pF
footprint ABRACON ABM10
pins: 1, 2 GND, 3, 4 GND

## ABM10-32.000MHZ-7-A15-T
designator Y?, comment 32MHz
CRYSTAL 32.0000MHZ 10PF SMD; Part Number: ABM10-32.000MHZ-7-A15-T; Manufacturer: Abracon LLC; Frequency Stability: 15ppm; ESR: 70 Ohm; Operating Mode: Fundamental; PartId: 8887; Supplier 1: Digi-Key; Supplier Part Number 1: 535-9626-2-ND; ComponentLink1Description: Datasheet; ComponentLink1URL: http://www.abracon.com/Resonators/ABM10.pdf; ComponentLink2Description: Digi-Key Listing; ComponentLink2URL: https://www.digikey.com/product-detail/en/ABM10-32.000MHZ-7-A15-T/535-9626-2-ND/1236943; Price: 0.6; Type: MHz Crystal; Device Package: 4-SMD, No Lead (DFN, LCC); Series: ABM10; Frequency: 32MHz; Frequency Tolerance: 15ppm; Load Capacitance: 10pF
footprint ABRACON ABM10
pins: 1, 2 GND, 3, 4 GND

## ABM10-32.000MHZ-8-7-A15-T
designator Y?, comment 32MHz
CRYSTAL 32.0000MHZ 8PF SMD; Part Number: ABM10-32.000MHZ-8-7-A15-T; Manufacturer: Abracon LLC; Frequency Stability: 15ppm; ESR: 70 Ohm; Operating Mode: Fundamental; PartId: 8902; Supplier 1: Digi-Key; Supplier Part Number 1: 535-9625-2-ND; ComponentLink1Description: Datasheet; ComponentLink1URL: http://www.abracon.com/Resonators/ABM10.pdf; ComponentLink2Description: Digi-Key Listing; ComponentLink2URL: https://www.digikey.com/product-detail/en/ABM10-32.000MHZ-8-7-A15-T/535-9625-2-ND/1236942; Price: 0.6; Type: MHz Crystal; Device Package: 4-SMD, No Lead (DFN, LCC); Series: ABM10; Frequency: 32MHz; Frequency Tolerance: 15ppm; Load Capacitance: 8pF
footprint ABRACON ABM10
pins: 1, 2 GND, 3, 4 GND

## ABM10-32.000MHZ-D30-T3
designator Y?, comment 32MHz
CRYSTAL 32.0000MHZ 10PF SMD; Part Number: ABM10-32.000MHZ-D30-T3; Manufacturer: Abracon LLC; Frequency Stability: 30ppm; Frequency Tolerance: 20ppm; ESR: 70 Ohm; Operating Mode: Fundamental; PartId: 8889; Supplier 1: Digi-Key; Supplier Part Number 1: 535-10936-2-ND; ComponentLink1Description: Datasheet; ComponentLink1URL: http://www.abracon.com/Resonators/ABM10.pdf; ComponentLink2Description: Digi-Key Listing; ComponentLink2URL: https://www.digikey.com/product-detail/en/ABM10-32.000MHZ-D30-T3/535-10936-2-ND/2623736; Price: 0.667; Type: MHz Crystal; Device Package: 4-SMD, No Lead (DFN, LCC); Series: ABM10; Frequency: 32MHz; Load Capacitance: 10pF
footprint ABRACON ABM10
pins: 1, 2 GND, 3, 4 GND

## ABM10-40.000MHZ-8-7-A15-T
designator Y?, comment 40MHz
CRYSTAL 40.0000MHZ 8PF SMD; Part Number: ABM10-40.000MHZ-8-7-A15-T; Manufacturer: Abracon LLC; Frequency Stability: 15ppm; ESR: 70 Ohm; Operating Mode: Fundamental; PartId: 8906; Supplier 1: Digi-Key; Supplier Part Number 1: 535-9627-2-ND; ComponentLink1Description: Datasheet; ComponentLink1URL: http://www.abracon.com/Resonators/ABM10.pdf; ComponentLink2Description: Digi-Key Listing; ComponentLink2URL: https://www.digikey.com/product-detail/en/ABM10-40.000MHZ-8-7-A15-T/535-9627-2-ND/1236944; Price: 0.6; Type: MHz Crystal; Device Package: 4-SMD, No Lead (DFN, LCC); Series: ABM10; Frequency: 40MHz; Frequency Tolerance: 15ppm; Load Capacitance: 8pF
footprint ABRACON ABM10
pins: 1, 2 GND, 3, 4 GND

## ABM10-40.000MHZ-D30-T3
designator Y?, comment 40MHz
CRYSTAL 40.0000MHZ 10PF SMD; Part Number: ABM10-40.000MHZ-D30-T3; Manufacturer: Abracon LLC; Frequency Stability: 30ppm; Frequency Tolerance: 20ppm; ESR: 70 Ohm; Operating Mode: Fundamental; PartId: 8892; Supplier 1: Digi-Key; Supplier Part Number 1: 535-10937-2-ND; ComponentLink1Description: Datasheet; ComponentLink1URL: http://www.abracon.com/Resonators/ABM10.pdf; ComponentLink2Description: Digi-Key Listing; ComponentLink2URL: https://www.digikey.com/product-detail/en/ABM10-40.000MHZ-D30-T3/535-10937-2-ND/2623737; Price: 0.667; Type: MHz Crystal; Device Package: 4-SMD, No Lead (DFN, LCC); Series: ABM10; Frequency: 40MHz; Load Capacitance: 10pF
footprint ABRACON ABM10
pins: 1, 2 GND, 3, 4 GND

## ABM10-40.000MHZ-E20-T
designator Y?, comment 40MHz
CRYSTAL 40.0000MHZ 10PF SMD; Part Number: ABM10-40.000MHZ-E20-T; Manufacturer: Abracon LLC; Frequency Stability: 20ppm; ESR: 70 Ohm; Operating Mode: Fundamental; PartId: 8910; Supplier 1: Digi-Key; Supplier Part Number 1: 535-9098-2-ND; ComponentLink1Description: Datasheet; ComponentLink1URL: http://www.abracon.com/Resonators/ABM10.pdf; ComponentLink2Description: Digi-Key Listing; ComponentLink2URL: https://www.digikey.com/product-detail/en/ABM10-40.000MHZ-E20-T/535-9098-2-ND/675293; Price: 0.9587; Type: MHz Crystal; Device Package: 4-SMD, No Lead (DFN, LCC); Series: ABM10; Frequency: 40MHz; Frequency Tolerance: 20ppm; Load Capacitance: 10pF
footprint ABRACON ABM10
pins: 1, 2 GND, 3, 4 GND

## ABM10-48.000MHZ-D30-T3
designator Y?, comment 48MHz
CRYSTAL 48.0000MHZ 10PF SMD; Part Number: ABM10-48.000MHZ-D30-T3; Manufacturer: Abracon LLC; Frequency Stability: 30ppm; Frequency Tolerance: 20ppm; ESR: 70 Ohm; Operating Mode: Fundamental; PartId: 8893; Supplier 1: Digi-Key; Supplier Part Number 1: 535-10938-2-ND; ComponentLink1Description: Datasheet; ComponentLink1URL: http://www.abracon.com/Resonators/ABM10.pdf; ComponentLink2Description: Digi-Key Listing; ComponentLink2URL: https://www.digikey.com/product-detail/en/ABM10-48.000MHZ-D30-T3/535-10938-2-ND/2623738; Price: 0.667; Type: MHz Crystal; Device Package: 4-SMD, No Lead (DFN, LCC); Series: ABM10; Frequency: 48MHz; Load Capacitance: 10pF
footprint ABRACON ABM10
pins: 1, 2 GND, 3, 4 GND

## ABM10-48.000MHZ-E20-T
designator Y?, comment 48MHz
CRYSTAL 48.0000MHZ 10PF SMD; Part Number: ABM10-48.000MHZ-E20-T; Manufacturer: Abracon LLC; Frequency Stability: 20ppm; ESR: 70 Ohm; Operating Mode: Fundamental; PartId: 8901; Supplier 1: Digi-Key; Supplier Part Number 1: 535-9099-2-ND; ComponentLink1Description: Datasheet; ComponentLink1URL: http://www.abracon.com/Resonators/ABM10.pdf; ComponentLink2Description: Digi-Key Listing; ComponentLink2URL: https://www.digikey.com/product-detail/en/ABM10-48.000MHZ-E20-T/535-9099-2-ND/675294; Price: 0.8112; Type: MHz Crystal; Device Package: 4-SMD, No Lead (DFN, LCC); Series: ABM10; Frequency: 48MHz; Frequency Tolerance: 20ppm; Load Capacitance: 10pF
footprint ABRACON ABM10
pins: 1, 2 GND, 3, 4 GND

## ABS06-32.768KHZ-1-T
designator Y?, comment 32.768kHz
CRYSTAL 32.7680KHZ 12.5PF SMD; Part Number: ABS06-32.768KHZ-1-T; Manufacturer: Abracon LLC; Frequency Tolerance: 10ppm; ESR: 90 kOhm; Operating Mode: Fundamental; PartId: 8532; Supplier 1: Digi-Key; Supplier Part Number 1: 535-10248-2-ND; ComponentLink1Description: Datasheet; ComponentLink1URL: http://www.abracon.com/Resonators/ABS06.pdf; ComponentLink2Description: Digi-Key Listing; ComponentLink2URL: http://www.digikey.com/product-detail/en/ABS06-32.768KHZ-1-T/535-10248-2-ND/2217994; Price: 0.714; Type: kHz Crystal (Tuning Fork); Device Package: 2-SMD; Frequency: 32.768kHz; Frequency Stability: -; Load Capacitance: 12.5pF
footprint ABRACON ABS06
pins: 1, 2

## ABS06-32.768KHZ-9-1-T
designator Y?, comment 32.768kHz
CRYSTAL 32.7680KHZ 9PF SMD; Part Number: ABS06-32.768KHZ-9-1-T; Manufacturer: Abracon LLC; Frequency Tolerance: 10ppm; ESR: 90 kOhm; Operating Mode: Fundamental; PartId: 8531; Supplier 1: Digi-Key; Supplier Part Number 1: 535-10247-2-ND; ComponentLink1Description: Datasheet; ComponentLink1URL: http://www.abracon.com/Resonators/ABS06.pdf; ComponentLink2Description: Digi-Key Listing; ComponentLink2URL: http://www.digikey.com/product-detail/en/ABS06-32.768KHZ-9-1-T/535-10247-2-ND/2217993; Price: 0.714; Type: kHz Crystal (Tuning Fork); Device Package: 2-SMD; Frequency: 32.768kHz; Frequency Stability: -; Load Capacitance: 9pF
footprint ABRACON ABS06
pins: 1, 2

## ABS06-32.768KHZ-9-T
designator Y?, comment 32.768kHz
CRYSTAL 32.7680KHZ 9PF SMD; Part Number: ABS06-32.768KHZ-9-T; Manufacturer: Abracon LLC; Frequency Tolerance: 20ppm; ESR: 90 kOhm; Operating Mode: Fundamental; PartId: 8533; Supplier 1: Digi-Key; Supplier Part Number 1: 535-10246-2-ND; ComponentLink1Description: Datasheet; ComponentLink1URL: http://www.abracon.com/Resonators/ABS06.pdf; ComponentLink2Description: Digi-Key Listing; ComponentLink2URL: http://www.digikey.com/product-detail/en/ABS06-32.768KHZ-9-T/535-10246-2-ND/2217992; Price: 0.756; Type: kHz Crystal (Tuning Fork); Device Package: 2-SMD; Frequency: 32.768kHz; Frequency Stability: -; Load Capacitance: 9pF
footprint ABRACON ABS06
pins: 1, 2

## ABS06-32.768KHZ-T
designator Y?, comment 32.768kHz
CRYSTAL 32.7680KHZ 12.5PF SMD; Part Number: ABS06-32.768KHZ-T; Manufacturer: Abracon LLC; Frequency Tolerance: 20ppm; ESR: 90 kOhm; Operating Mode: Fundamental; PartId: 8529; Supplier 1: Digi-Key; Supplier Part Number 1: 535-10104-2-ND; ComponentLink1Description: Datasheet; ComponentLink1URL: http://www.abracon.com/Resonators/ABS06.pdf; ComponentLink2Description: Digi-Key Listing; ComponentLink2URL: http://www.digikey.com/product-detail/en/ABS06-32.768KHZ-T/535-10104-2-ND/2089877; Price: 0.406; Type: kHz Crystal (Tuning Fork); Device Package: 2-SMD; Frequency: 32.768kHz; Frequency Stability: -; Load Capacitance: 12.5pF
footprint ABRACON ABS06
pins: 1, 2

## ABS06-107-32.768KHZ-T
designator Y?, comment 32.768kHz
CRYSTAL 32.7680KHZ 4PF SMD; Part Number: ABS06-107-32.768KHZ-T; Manufacturer: Abracon LLC; Frequency Tolerance: 20ppm; ESR: 60 kOhm; Operating Mode: Fundamental; PartId: 8530; Supplier 1: Digi-Key; Supplier Part Number 1: 535-12373-2-ND; ComponentLink1Description: Datasheet; ComponentLink1URL: http://www.abracon.com/Resonators/ABS06-107-32.768kHz-T.pdf; ComponentLink2Description: Digi-Key Listing; ComponentLink2URL: http://www.digikey.com/product-detail/en/ABS06-107-32.768KHZ-T/535-12373-2-ND/4291565; Price: 0.5075; Type: kHz Crystal (Tuning Fork); Device Package: 0805 (2012 Metric); Frequency: 32.768kHz; Frequency Stability: -; Load Capacitance: 4pF
footprint ABRACON ABS06
pins: 1, 2

## ABS07-32.768KHZ-1-T
designator Y?, comment 32.768kHz
CRYSTAL 32.7680KHZ 12.5PF SMD; Part Number: ABS07-32.768KHZ-1-T; Manufacturer: Abracon LLC; Frequency Tolerance: 10ppm; ESR: 70 kOhm; Operating Mode: Fundamental; PartId: 8492; Supplier 1: Digi-Key; Supplier Part Number 1: 535-9808-2-ND; ComponentLink1Description: Datasheet; ComponentLink1URL: http://www.abracon.com/Resonators/ABS07.pdf; ComponentLink2Description: Digi-Key Listing; ComponentLink2URL: http://www.digikey.com/product-detail/en/ABS07-32.768KHZ-1-T/535-9808-2-ND/2001175; Price: 0.522; Type: kHz Crystal (Tuning Fork); Device Package: 2-SMD; Frequency: 32.768kHz; Frequency Stability: -; Load Capacitance: 12.5pF
footprint ABRACON ABS07
pins: 1, 2

## ABS07-32.768KHZ-6-T
designator Y?, comment 32.768kHz
CRYSTAL 32.7680KHZ 6PF SMD; Part Number: ABS07-32.768KHZ-6-T; Manufacturer: Abracon LLC; Frequency Tolerance: 20ppm; ESR: 70 kOhm; Operating Mode: Fundamental; PartId: 8491; Supplier 1: Digi-Key; Supplier Part Number 1: 535-11898-2-ND; ComponentLink1Description: Datasheet; ComponentLink1URL: http://www.abracon.com/Resonators/ABS07.pdf; ComponentLink2Description: Digi-Key Listing; ComponentLink2URL: http://www.digikey.com/product-detail/en/ABS07-32.768KHZ-6-T/535-11898-2-ND/3508065; Price: 0.4205; Type: kHz Crystal (Tuning Fork); Device Package: 2-SMD; Frequency: 32.768kHz; Frequency Stability: -; Load Capacitance: 6pF
footprint ABRACON ABS07
pins: 1, 2

## ABS07-32.768KHZ-7-T
designator Y?, comment 32.768kHz
CRYSTAL 32.7680KHZ 7PF SMD; Part Number: ABS07-32.768KHZ-7-T; Manufacturer: Abracon LLC; Frequency Tolerance: 20ppm; ESR: 70 kOhm; Operating Mode: Fundamental; PartId: 8488; Supplier 1: Digi-Key; Supplier Part Number 1: 535-9543-2-ND; ComponentLink1Description: Datasheet; ComponentLink1URL: http://www.abracon.com/Resonators/ABS07.pdf; ComponentLink2Description: Digi-Key Listing; ComponentLink2URL: http://www.digikey.com/product-detail/en/ABS07-32.768KHZ-7-T/535-9543-2-ND/1236859; Price: 0.3375; Type: kHz Crystal (Tuning Fork); Device Package: 2-SMD; Frequency: 32.768kHz; Frequency Stability: -; Load Capacitance: 7pF
footprint ABRACON ABS07
pins: 1, 2

## ABS07-32.768KHZ-9-T
designator Y?, comment 32.768kHz
CRYSTAL 32.7680KHZ 9PF SMD; Part Number: ABS07-32.768KHZ-9-T; Manufacturer: Abracon LLC; Frequency Tolerance: 20ppm; ESR: 70 kOhm; Operating Mode: Fundamental; PartId: 8489; Supplier 1: Digi-Key; Supplier Part Number 1: 535-9544-2-ND; ComponentLink1Description: Datasheet; ComponentLink1URL: http://www.abracon.com/Resonators/ABS07.pdf; ComponentLink2Description: Digi-Key Listing; ComponentLink2URL: http://www.digikey.com/product-detail/en/ABS07-32.768KHZ-9-T/535-9544-2-ND/1236860; Price: 0.3675; Type: kHz Crystal (Tuning Fork); Device Package: 2-SMD; Frequency: 32.768kHz; Frequency Stability: -; Load Capacitance: 9pF
footprint ABRACON ABS07
pins: 1, 2

## ABS07-32.768KHZ-T
designator Y?, comment 32.768kHz
CRYSTAL 32.7680KHZ 12.5PF SMD; Part Number: ABS07-32.768KHZ-T; Manufacturer: Abracon LLC; Frequency Tolerance: 20ppm; ESR: 70 kOhm; Operating Mode: Fundamental; PartId: 8487; Supplier 1: Digi-Key; Supplier Part Number 1: 535-9542-2-ND; ComponentLink1Description: Datasheet; ComponentLink1URL: http://www.abracon.com/Resonators/ABS07.pdf; ComponentLink2Description: Digi-Key Listing; ComponentLink2URL: http://www.digikey.com/product-detail/en/ABS07-32.768KHZ-T/535-9542-2-ND/1236858; Price: 0.3; Type: kHz Crystal (Tuning Fork); Device Package: 2-SMD; Frequency: 32.768kHz; Frequency Stability: -; Load Capacitance: 12.5pF
footprint ABRACON ABS07
pins: 1, 2

## ABS07-120-32.768KHZ-T
designator Y?, comment 32.768kHz
CRYSTAL 32.7680KHZ 6PF SMD; Part Number: ABS07-120-32.768KHZ-T; Manufacturer: Abracon LLC; Frequency Tolerance: 20ppm; ESR: 55 kOhm; Operating Mode: Fundamental; PartId: 8490; Supplier 1: Digi-Key; Supplier Part Number 1: 535-11937-2-ND; ComponentLink1Description: Datasheet; ComponentLink1URL: http://www.abracon.com/Resonators/ABS07-120-32.768kHz-T.pdf; ComponentLink2Description: Digi-Key Listing; ComponentLink2URL: http://www.digikey.com/product-detail/en/ABS07-120-32.768KHZ-T/535-11937-2-ND/3724043; Price: 0.3784; Type: kHz Crystal (Tuning Fork); Device Package: 2-SMD; Frequency: 32.768kHz; Frequency Stability: -; Load Capacitance: 6pF
footprint ABRACON ABS07
pins: 1, 2

## ABS25-32.000KHZ-T
designator Y?, comment 32kHz
CRYSTAL 32.0000KHZ 12.5PF SMD; Part Number: ABS25-32.000KHZ-T; Manufacturer: Abracon LLC; Frequency Tolerance: 30ppm; ESR: 50 kOhm; Operating Mode: Fundamental; PartId: 8460; Supplier 1: Digi-Key; Supplier Part Number 1: 535-10242-2-ND; ComponentLink1Description: Datasheet; ComponentLink1URL: http://www.abracon.com/Resonators/abs25.pdf; ComponentLink2Description: Digi-Key Listing; ComponentLink2URL: http://www.digikey.com/product-detail/en/ABS25-32.000KHZ-T/535-10242-2-ND/2217988; Price: 0.638; Type: kHz Crystal (Tuning Fork); Device Package: 4-SOJ, 5.50mm pitch; Frequency: 32kHz; Frequency Stability: -; Load Capacitance: 12.5pF
footprint ABRACON ABS25
pins: 1, 4

## ABS25-32.768KHZ-6-1-T
designator Y?, comment 32.768kHz
CRYSTAL 32.7680KHZ 6PF SMD; Part Number: ABS25-32.768KHZ-6-1-T; Manufacturer: Abracon LLC; Frequency Tolerance: 10ppm; ESR: 50 kOhm; Operating Mode: Fundamental; PartId: 8459; Supplier 1: Digi-Key; Supplier Part Number 1: 535-10241-2-ND; ComponentLink1Description: Datasheet; ComponentLink1URL: http://www.abracon.com/Resonators/abs25.pdf; ComponentLink2Description: Digi-Key Listing; ComponentLink2URL: http://www.digikey.com/product-detail/en/ABS25-32.768KHZ-6-1-T/535-10241-2-ND/2217987; Price: 0.3; Type: kHz Crystal (Tuning Fork); Device Package: 4-SOJ, 5.50mm pitch; Frequency: 32.768kHz; Frequency Stability: -; Load Capacitance: 6pF
footprint ABRACON ABS25
pins: 1, 4

## ABS25-32.768KHZ-6-T
designator Y?, comment 32.768kHz
CRYSTAL 32.7680KHZ 6PF SMD; Part Number: ABS25-32.768KHZ-6-T; Manufacturer: Abracon LLC; Frequency Tolerance: 20ppm; ESR: 50 kOhm; Operating Mode: Fundamental; PartId: 8458; Supplier 1: Digi-Key; Supplier Part Number 1: 535-10240-2-ND; ComponentLink1Description: Datasheet; ComponentLink1URL: http://www.abracon.com/Resonators/abs25.pdf; ComponentLink2Description: Digi-Key Listing; ComponentLink2URL: http://www.digikey.com/product-detail/en/ABS25-32.768KHZ-6-T/535-10240-2-ND/2217986; Price: 0.2025; Type: kHz Crystal (Tuning Fork); Device Package: 4-SOJ, 5.50mm pitch; Frequency: 32.768kHz; Frequency Stability: -; Load Capacitance: 6pF
footprint ABRACON ABS25
pins: 1, 4

## ABS25-32.768KHZ-T
designator Y?, comment 32.768kHz
CRYSTAL 32.7680KHZ 12.5PF SMD; Part Number: ABS25-32.768KHZ-T; Manufacturer: Abracon LLC; Frequency Tolerance: 20ppm; ESR: 50 kOhm; Operating Mode: Fundamental; PartId: 8457; Supplier 1: Digi-Key; Supplier Part Number 1: 535-9166-2-ND; ComponentLink1Description: Datasheet; ComponentLink1URL: http://www.abracon.com/Resonators/abs25.pdf; ComponentLink2Description: Digi-Key Listing; ComponentLink2URL: http://www.digikey.com/product-detail/en/ABS25-32.768KHZ-T/535-9166-2-ND/675361; Price: 0.18; Type: kHz Crystal (Tuning Fork); Device Package: 4-SOJ, 5.50mm pitch; Frequency: 32.768kHz; Frequency Stability: -; Load Capacitance: 12.5pF
footprint ABRACON ABS25
pins: 1, 4

## ABS25-38.000KHZ-T
designator Y?, comment 38kHz
CRYSTAL 38.0000KHZ 12.5PF SMD; Part Number: ABS25-38.000KHZ-T; Manufacturer: Abracon LLC; Frequency Tolerance: 30ppm; ESR: 50 kOhm; Operating Mode: Fundamental; PartId: 8462; Supplier 1: Digi-Key; Supplier Part Number 1: 535-10243-2-ND; ComponentLink1Description: Datasheet; ComponentLink1URL: http://www.abracon.com/Resonators/abs25.pdf; ComponentLink2Description: Digi-Key Listing; ComponentLink2URL: http://www.digikey.com/product-detail/en/ABS25-38.000KHZ-T/535-10243-2-ND/2217989; Price: 0.6525; Type: kHz Crystal (Tuning Fork); Device Package: 4-SOJ, 5.50mm pitch; Frequency: 38kHz; Frequency Stability: -; Load Capacitance: 12.5pF
footprint ABRACON ABS25
pins: 1, 4

## ABS25-60.000KHZ-T
designator Y?, comment 60kHz
CRYSTAL 60.0000KHZ 12.5PF SMD; Part Number: ABS25-60.000KHZ-T; Manufacturer: Abracon LLC; Frequency Tolerance: 30ppm; ESR: 50 kOhm; Operating Mode: Fundamental; PartId: 8461; Supplier 1: Digi-Key; Supplier Part Number 1: 535-10244-2-ND; ComponentLink1Description: Datasheet; ComponentLink1URL: http://www.abracon.com/Resonators/abs25.pdf; ComponentLink2Description: Digi-Key Listing; ComponentLink2URL: http://www.digikey.com/product-detail/en/ABS25-60.000KHZ-T/535-10244-2-ND/2217990; Price: 0.638; Type: kHz Crystal (Tuning Fork); Device Package: 4-SOJ, 5.50mm pitch; Frequency: 60kHz; Frequency Stability: -; Load Capacitance: 12.5pF
footprint ABRACON ABS25
pins: 1, 4

## ABS25-100.000KHZ-T
designator Y?, comment 100kHz
CRYSTAL 100.0000KHZ 12.5PF SMD; Part Number: ABS25-100.000KHZ-T; Manufacturer: Abracon LLC; Frequency Tolerance: 30ppm; ESR: 50 kOhm; Operating Mode: Fundamental; PartId: 8463; Supplier 1: Digi-Key; Supplier Part Number 1: 535-10245-2-ND; ComponentLink1Description: Datasheet; ComponentLink1URL: http://www.abracon.com/Resonators/abs25.pdf; ComponentLink2Description: Digi-Key Listing; ComponentLink2URL: http://www.digikey.com/product-detail/en/ABS25-100.000KHZ-T/535-10245-2-ND/2217991; Price: 0.6525; Type: kHz Crystal (Tuning Fork); Device Package: 4-SOJ, 5.50mm pitch; Frequency: 100kHz; Frequency Stability: -; Load Capacitance: 12.5pF
footprint ABRACON ABS25
pins: 1, 4